# Altium footprint library transformers.PcbLib: 4 footprints
Each footprint in its own frame and in the unit in brackets; x right, y up, seen from the top. Pads: shape width x height; smd on the part's side, far side on the other; paste and mask are expansions set on the pad; w line width, h text height; cw(c..) or ccw(c..) is an arc to the next point about the centre after c.
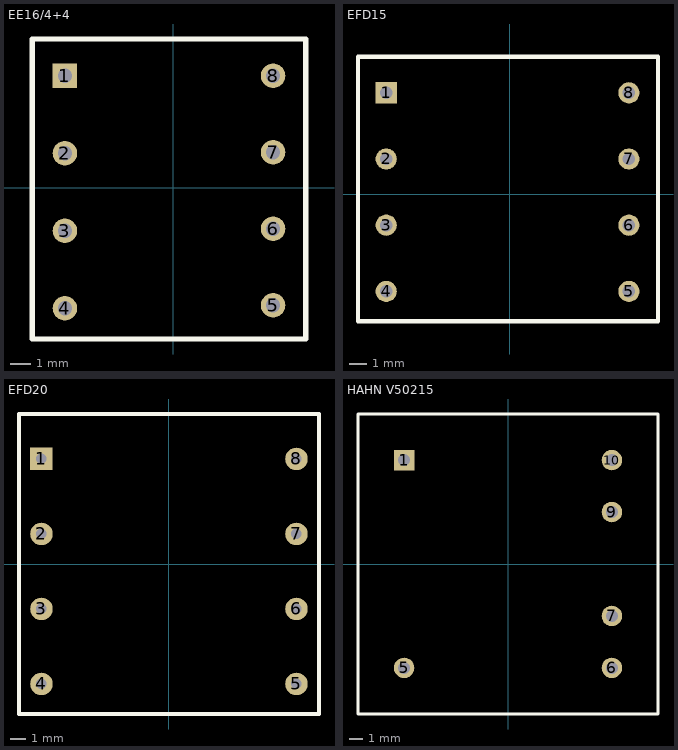
[diagram p0: the footprints below, top view; thin cyan lines are the x and y axes]

## EE16/4+4 [mm] "Transformer"
height 14
pads (8):
  rect 1.2x1.2 hole 0.7: 1(-5.3,5.5)
  round 1.2 hole 0.7: 2(-5.3,1.7) 3(-5.3,-2.1) 4(-5.3,-5.9) 5(4.9,-5.75) 6(4.9,-2) 7(4.9,1.75) 8(4.9,5.5)
Top Overlay:
  lines w0.254: -6.9,-7.4 -6.9,7.3 6.5,7.3 6.5,-7.4 -6.9,-7.4

## EFD15 [mm] "Transformer"
height 8.3
pads (8):
  rect 1.2x1.2 hole 0.7: 1(-7,5.75)
  round 1.2 hole 0.7: 2(-7,2) 3(-7,-1.75) 4(-7,-5.5) 5(6.75,-5.5) 6(6.75,-1.75) 7(6.75,2) 8(6.75,5.75)
Top Overlay:
  lines w0.254: -8.6,-7.2 8.4,-7.2 8.4,7.8 -8.6,7.8 -8.6,-7.2

## EFD20 [mm] "Transformer Horizontal"
height 11
pads (8):
  rect 1.5x1.5 hole 0.7: 1(-8.5,7)
  round 1.5 hole 0.7: 2(-8.5,2) 3(-8.5,-3) 4(-8.5,-8) 5(8.5,-8) 6(8.5,-3) 7(8.5,2) 8(8.5,7)
Top Overlay:
  lines w0.254: -10,-10 10,-10 10,10 -10,10 -10,-10

## HAHN V50215 [mm] "EE20 transformer"
height 17
pads (6):
  rect 1.5x1.5 hole 0.9: 1(-7.62,7.62)
  round 1.5 hole 0.9: 5(-7.62,-7.62) 6(7.62,-7.62) 7(7.62,-3.81) 9(7.62,3.81) 10(7.62,7.62)
Top Overlay:
  lines w0.254: -11,-11 -11,11 11,11 11,-11 -11,-11